# Altium footprint library CRCW08054M12FKEA.PcbLib: 3 footprints
Each footprint in its own frame and in the unit in brackets; x right, y up, seen from the top. Pads: shape width x height; smd on the part's side, far side on the other; paste and mask are expansions set on the pad; w line width, h text height; cw(c..) or ccw(c..) is an arc to the next point about the centre after c.
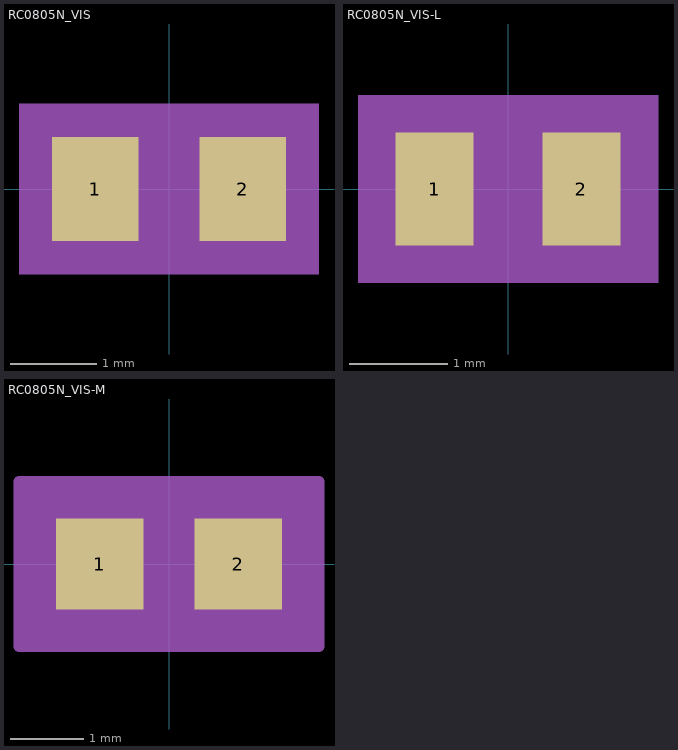
[diagram p0: the footprints below, top view; thin cyan lines are the x and y axes]

## RC0805N_VIS [mm]
pads (2):
  rect 1x1.2 smd paste+0 mask+0: 1(-0.85,0) 2(0.85,0)
Mechanical 5:
  region: 1.731,-0.981 -1.731,-0.981 -1.731,0.981 1.731,0.981
Mechanical 13:
  lines w0.025: -1,-0.6 -1,0.6 ; -1,-0.6 -0.35,-0.6 -0.35,0.6 -1,0.6 ; -1,-0.6 1,-0.6 ; -1,-0.6 -1,0.6 ; -1,0.6 1,0.6 ; 1,-0.6 0.35,-0.6 0.35,0.6 1,0.6 ; 1,-0.6 1,0.6 ; 1,-0.6 1,0.6
Mechanical 15:
  region: 1.604,-0.854 -1.604,-0.854 -1.604,0.854 1.604,0.854
  lines w0.152: -1.604,-0.854 -1.604,0.854 1.604,0.854 1.604,-0.854 -1.604,-0.854
3D body "RC0805N_VIS.step": height 0.71, standoff 0, extent -1,-0.6 1,0.6

## RC0805N_VIS-L [mm]
pads (2):
  rect 0.8x1.15 smd paste+0 mask+0: 1(-0.75,0) 2(0.75,0)
Mechanical 5:
  region: 1.531,-0.956 -1.531,-0.956 -1.531,0.956 1.531,0.956
Mechanical 13:
  lines w0.025: -1,-0.6 -1,0.6 ; -1,-0.6 -0.35,-0.6 -0.35,0.6 -1,0.6 ; -1,-0.6 1,-0.6 ; -1,-0.6 -1,0.6 ; -1,0.6 1,0.6 ; 1,-0.6 0.35,-0.6 0.35,0.6 1,0.6 ; 1,-0.6 1,0.6 ; 1,-0.6 1,0.6
Mechanical 15:
  region: 1.252,-0.677 -1.252,-0.677 -1.252,0.677 1.252,0.677
  lines w0.152: -1.252,-0.677 -1.252,0.677 1.252,0.677 1.252,-0.677 -1.252,-0.677
3D body "RC0805N_VIS.step": height 0.71, standoff 0, extent -1,-0.6 1,0.6

## RC0805N_VIS-M [mm]
pads (2):
  rect 1.2x1.25 smd paste+0 mask+0: 1(-0.95,0) 2(0.95,0)
Mechanical 5:
  region: 1.931,-1.006 -1.931,-1.006 -1.931,1.006 1.931,1.006
Mechanical 13:
  lines w0.025: -1,-0.6 -1,0.6 ; -1,-0.6 -0.35,-0.6 -0.35,0.6 -1,0.6 ; -1,-0.6 1,-0.6 ; -1,-0.6 -1,0.6 ; -1,0.6 1,0.6 ; 1,-0.6 0.35,-0.6 0.35,0.6 1,0.6 ; 1,-0.6 1,0.6 ; 1,-0.6 1,0.6
Mechanical 15:
  region: 2.058,-1.133 -2.058,-1.133 -2.058,1.133 2.058,1.133
  lines w0.152: -2.058,-1.133 -2.058,1.133 2.058,1.133 2.058,-1.133 -2.058,-1.133
3D body "RC0805N_VIS.step": height 0.71, standoff 0, extent -1,-0.6 1,0.6